# Altium footprint library Motion Controller.PcbLib: 208 footprints (part 5 of 13)
Each footprint in its own frame and in the unit in brackets; x right, y up, seen from the top. Pads: shape width x height; smd on the part's side, far side on the other; paste and mask are expansions set on the pad; w line width, h text height; cw(c..) or ccw(c..) is an arc to the next point about the centre after c.
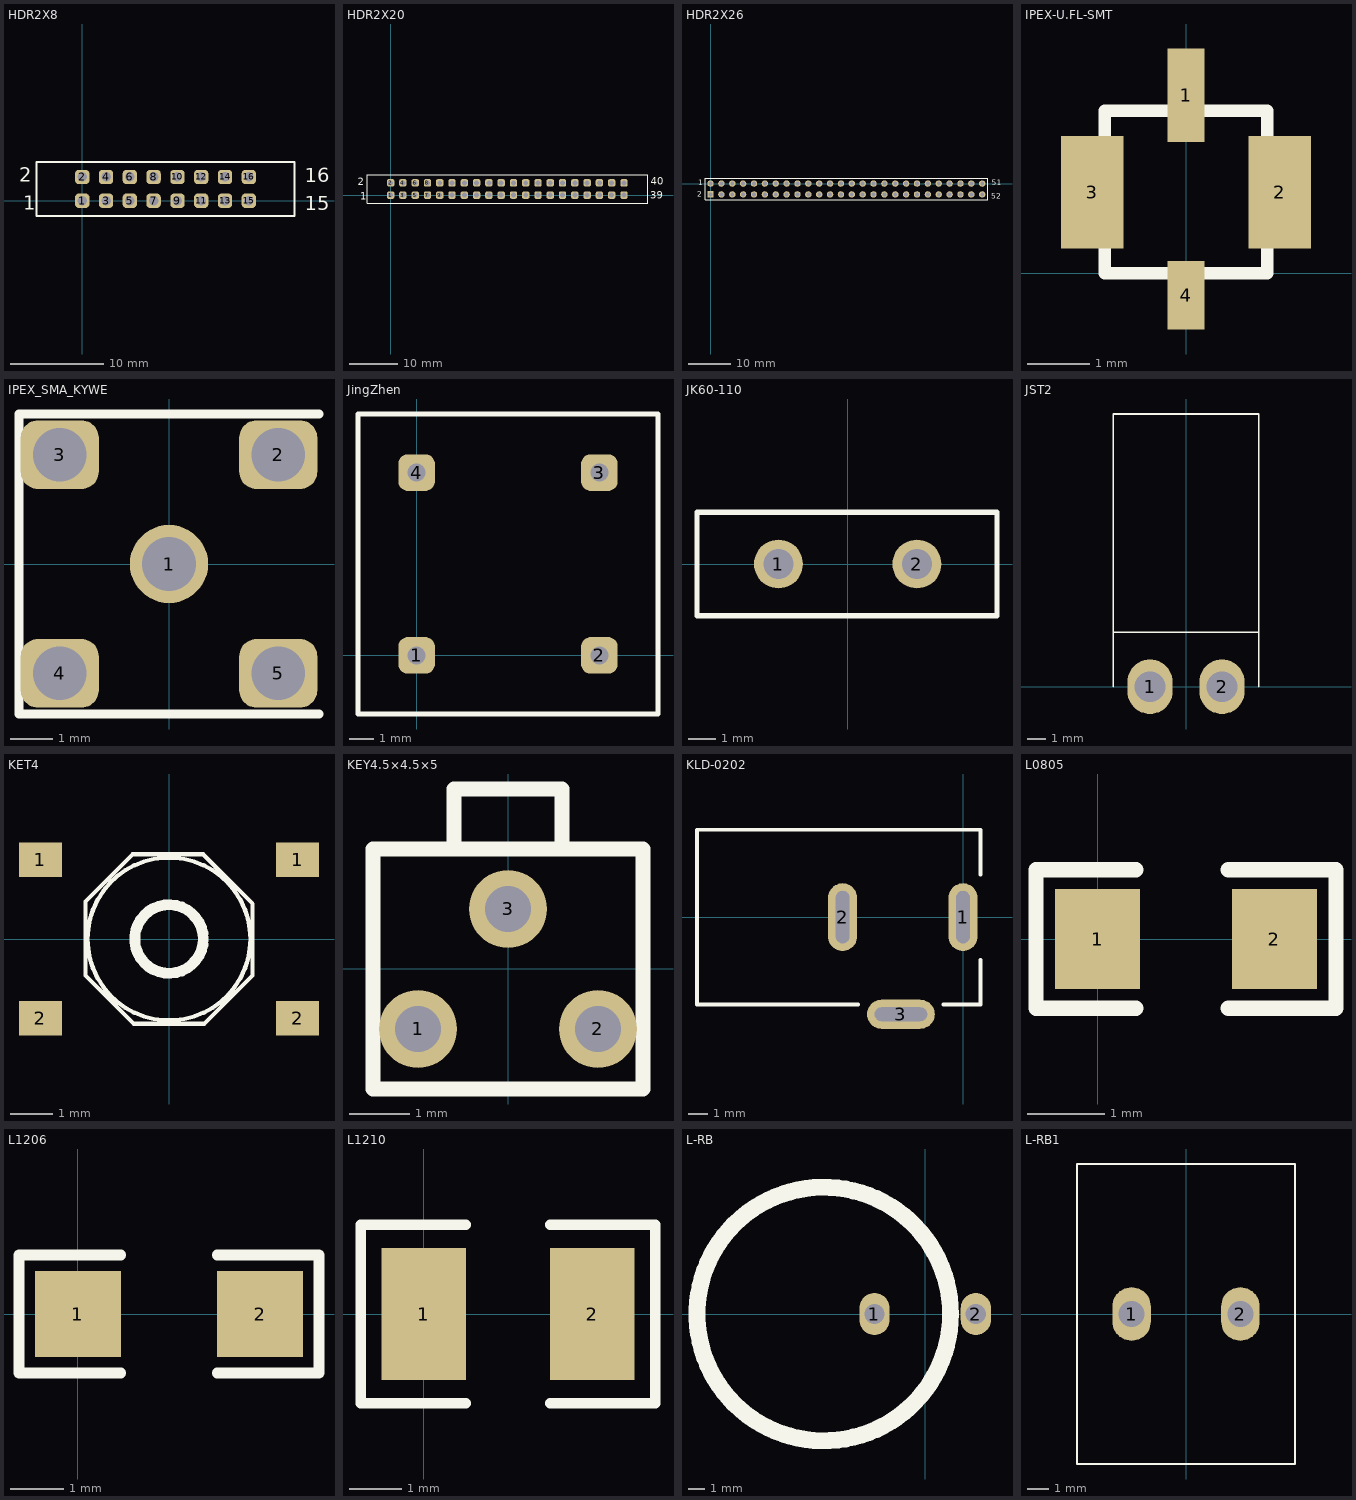
[diagram p4: the footprints below, top view; thin cyan lines are the x and y axes]

## HDR2X8 [mil]
pads (16):
  rrect50% 60x60 hole 40.16: 1(0,0) 3(100,0) 4(100,100) 5(200,0) 6(200,100) 7(300,0) 8(300,100) 9(400,0) 10(400,100) 11(500,0) 12(500,100) 13(600,0) 14(600,100) 15(700,0) 16(700,100)
  rrect50% 60x60 hole 40.16 square: 2(0,100)
Top Overlay:
  lines w7.87: -191.73,-64.17 891.73,-64.17 891.73,162.99 -191.73,162.99 -191.73,-64.17
  text "15" at 935.04,-39.76 h60
  text "16" at 935.04,78.35 h60
  text "1" at -248.03,-38.78 h60
  text "2" at -265.75,80.31 h60

## HDR2X20 [mil]
pads (40):
  rrect50% 60x60 hole 40.16: 1(0,0) 3(100,0) 4(100,100) 5(200,0) 6(200,100) 7(300,0) 8(300,100) 9(400,0) 10(400,100) 11(500,0) 12(500,100) 13(600,0) 14(600,100) 15(700,0) 16(700,100) 17(800,0) 18(800,100) 19(900,0) 20(900,100) 21(1000.98,0.59) 22(1000,100) 23(1100,0) 24(1100,100) 25(1200,0) 26(1200,100) 27(1300,0) 28(1300,100) 29(1400,0) 30(1400,100) 31(1500,0) 32(1500,100) 33(1600,0) 34(1600,100) 35(1700,0) 36(1700,100) 37(1800,0) 38(1800,100) 39(1900,0) 40(1900,100)
  rrect50% 60x60 hole 40.16 square: 2(0,100)
Top Overlay:
  lines w7.87: -191.73,-64.17 2091.73,-64.17 2091.73,164.17 -191.73,164.17 -191.73,-64.17
  text "39" at 2115.16,-29.92 h60
  text "40" at 2117.13,85.24 h60
  text "1" at -248.03,-38.78 h60
  text "2" at -265.75,80.31 h60

## HDR2X26 [mm]
pads (52):
  round 1.5 hole 0.9: 1(0,0) 3(2.54,0) 4(2.54,-2.54) 5(5.08,0) 6(5.08,-2.54) 7(7.612,-0.012) 8(7.62,-2.54) 9(10.16,0) 10(10.16,-2.54) 11(12.7,0) 12(12.7,-2.54) 13(15.24,0) 14(15.24,-2.54) 15(17.78,0) 16(17.78,-2.54) 17(20.32,0) 18(20.32,-2.54) 19(22.86,0) 20(22.86,-2.54) 21(25.4,0) 22(25.4,-2.54) 23(27.94,0) 24(27.94,-2.54) 25(30.48,0) 26(30.48,-2.54) 27(33.02,0) 28(33.02,-2.54) 29(35.56,0) 30(35.56,-2.54) 31(38.1,0) 32(38.1,-2.54) 33(40.64,0) 34(40.64,-2.54) 35(43.18,0) 36(43.18,-2.54) 37(45.72,0) 38(45.72,-2.54) 39(48.26,0) 40(48.26,-2.54) 41(50.8,0) 42(50.8,-2.54) 43(53.34,0) 44(53.34,-2.54) 45(55.88,0) 46(55.88,-2.54) 47(58.42,0) 48(58.42,-2.54) 49(60.96,0) 50(60.96,-2.54) 51(63.5,0) 52(63.5,-2.54)
  rect 1.5x1.5 hole 0.9: 2(0,-2.54)
Top Overlay:
  lines w0.2: -1.27,-3.81 -1.27,1.27 64.837,1.27 64.837,-3.81 -1.27,-3.81
  text "2" at -3.163,-3.112 h1.27
  text "1" at -2.888,-0.337 h1.27
  text "51" at 65.687,-0.412 h1.27
  text "52" at 65.587,-3.537 h1.27

## IPEX-U.FL-SMT [mm]
pads (4):
  rect 0.6x1.5 smd: 1(0,2.85)
  rect 1x1.8 smd: 2(1.5,1.3) 3(-1.5,1.3)
  rect 0.6x1.1 smd: 4(0,-0.35)
Top Overlay:
  lines w0.2: -1.3,0 -1.3,2.6 1.3,2.6 1.3,0 -1.3,0

## IPEX_SMA_KYWE [mm]
pads (5):
  round 1.824 hole 1.25: 1(0,0)
  rrect50% 1.824x1.6 hole 1.25: 2(2.55,2.55) 3(-2.55,2.55) 4(-2.55,-2.55) 5(2.55,-2.55)
Top Overlay:
  lines w0.2: 3.5,-3.5 -3.5,-3.5 -3.5,3.5 3.5,3.5

## JingZhen [mil]
height 216.54
pads (4):
  rrect50% 60x60 hole 30: 1(0,0) 2(300,0) 3(300,300) 4(0,300)
Top Overlay:
  lines w7.87: -96.06,-96.06 -96.06,396.06 396.06,396.06 396.06,-96.06 -96.06,-96.06

## JK60-110 [mm] "Radial Cap, Thru-Hole; 2 Leads; 0.3 in Pin Spacing"
height 6
pads (2):
  round 1.8 hole 1.1: 1(-2.55,0) 2(2.55,0)
Top Overlay:
  lines w0.2: -5.55,-1.905 5.5,-1.905 5.5,1.905 -5.55,1.905 -5.55,-1.905

## JST2 [mm]
pads (2):
  oval 2.5x3 hole 1.7: 1(-1.98,0) 2(1.98,0)
Top Overlay:
  lines w0.1: -4,0 -4,15 ; -4,3 4,3 ; -3.962,15 4,15 4,0

## KET4 [mm]
pads (4):
  rect 1x0.8 smd: 1(-3,1.85) 1(3,1.85) 2(-3,-1.85) 2(3,-1.85)
Top Overlay:
  circle w0.1: c0,0 r1.9
  circle w0.254: c0,0 r0.8
  lines w0.1: -1.95,-0.85 -1.95,0.875 -0.85,1.975 0.8,1.975 1.95,0.825 1.95,-0.85 0.825,-1.975 -0.825,-1.975 -1.95,-0.85

## KEY4.5×4.5×5 [mm]
pads (3):
  round 1.3 hole 0.762: 1(-1.5,-1) 2(1.5,-1) 3(0,1)
Top Overlay:
  lines w0.254: -0.9,2 -0.9,3 ; -0.84,3 0.9,3 0.9,2 ; -2.25,-2 2.25,-2 2.25,2 -2.25,2 -2.25,-2 ; 0.6,2 0.6,2

## KLD-0202 [mm] "DC Power Jack, 2.5mm, KLD Series, PCB Mount"
pads (3):
  oval 1.5x3.5 hole 0.7 slot 2.7 at 90 deg: 1(0,0) 2(-6.2,0)
  oval 3.5x1.5 hole 0.7 slot 2.7 at 0 deg: 3(-3.2,-5)
Top Overlay:
  lines w0.2: -5.4,-4.5 -13.7,-4.5 -13.7,4.5 0.9,4.5 0.9,2.2 ; -1,-4.5 0.9,-4.5 0.9,-2.2

## L0805 [mm]
pads (2):
  rect 1.1x1.3 smd: 1(0,0) 2(2.3,0)
Top Overlay:
  lines w0.2: 0.5,-0.9 -0.8,-0.9 -0.8,0.9 0.5,0.9 ; 1.7,-0.9 3.1,-0.9 3.1,0.9 1.7,0.9

## L1206 [mm]
pads (2):
  rect 1.6x1.6 smd: 1(0,0) 2(3.4,0)
Top Overlay:
  lines w0.2: 0.8,-1.1 -1.1,-1.1 -1.1,1.1 0.8,1.1 ; 2.6,-1.1 4.5,-1.1 4.5,1.1 2.6,1.1

## L1210 [mm]
pads (2):
  rect 1.6x2.5 smd: 1(0,0) 2(3.2,0)
Top Overlay:
  lines w0.2: 0.8,-1.7 -1.2,-1.7 -1.2,1.7 0.8,1.7 ; 2.4,-1.7 4.4,-1.7 4.4,1.7 2.4,1.7

## L-RB [mm]
pads (2):
  oval 1.8x2.5 hole 1.2: 1(-3,0) 2(3,0)
Top Overlay:
  circle w1: c-6,0 r7.5

## L-RB1 [mm]
pads (2):
  oval 1.8x2.5 hole 1.2: 1(-2.54,0) 2(2.54,0)
Top Overlay:
  lines w0.1: -5.08,-7 5.08,-7 5.08,7 -5.08,7 -5.08,-7